# Altium integrated library F0603G0R20FNTR.IntLib: 1 symbol
Pins are listed as number, name and electrical type; pins without a type are passive.

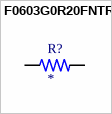
[diagram p0: symbol F0603G0R20FNTR]

## F0603G0R20FNTR
designator R?
200 mA AC 32 V DC Fuse Board Mount (Cartridge Style Excluded) Surface Mount 0603 (1608 Metric); MF: AVX; MP: F0603G0R20FNTR; Value: *; SnapEDA_Link: https://www.snapeda.com/parts/F0603G0R20FNTR/AVX+%252F+Kyocera/view-part/?ref=snap; Purchase-URL: https://pricing.snapeda.com/search/part/F0603G0R20FNTR/?ref=eda; Availability: In Stock; Price: None; Package: 0603-2 AVX; Check_prices: https://www.snapeda.com/parts/F0603G0R20FNTR/AVX+%252F+Kyocera/view-part/?ref=eda
footprint CAPC1608X90
pins: 1, 2